# Altium integrated library C1608X7R1A105K080AC.IntLib: 1 symbol
Pins are listed as number, name and electrical type; pins without a type are passive.

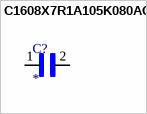
[diagram p0: symbol C1608X7R1A105K080AC]

## C1608X7R1A105K080AC
designator C?
1 ÂµF Â±10% 10V Ceramic Capacitor X7R 0603 (1608 Metric); MF: TDK; MP: C1608X7R1A105K080AC; SnapEDA_Link: https://www.snapeda.com/parts/C1608X7R1A105K080AC/TDK/view-part/?ref=snap; Check_prices: https://www.snapeda.com/parts/C1608X7R1A105K080AC/TDK/view-part/?ref=eda; Availability: In Stock; Value: *; Price: None; Package: 1608 TDK; Purchase-URL: https://pricing.snapeda.com/search/part/C1608X7R1A105K080AC/?ref=eda
footprint CAPC1608X95N
pins: 1, 2